# Altium footprint library TO-5-ZTP_1.PcbLib: 1 footprints
Each footprint in its own frame and in the unit in brackets; x right, y up, seen from the top. Pads: shape width x height; smd on the part's side, far side on the other; paste and mask are expansions set on the pad; w line width, h text height; cw(c..) or ccw(c..) is an arc to the next point about the centre after c.
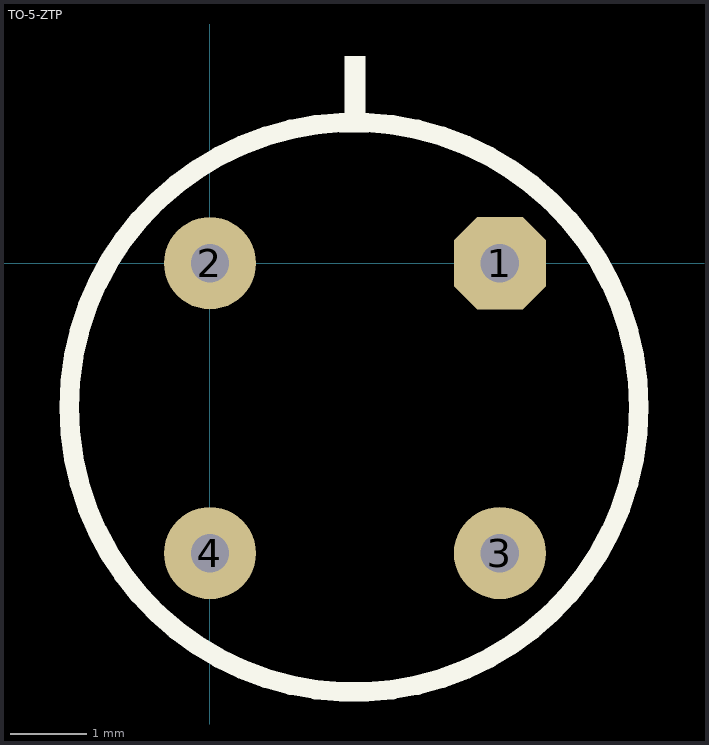
[diagram p0: the footprint, top view; thin cyan lines are the x and y axes]

## TO-5-ZTP [mm]
pads (4):
  oct 1.2x1.2 hole 0.5: 1(3.775,0)
  round 1.2 hole 0.5: 2(0,0) 3(3.775,-3.775) 4(0,-3.775)
Top Overlay:
  circle w0.254: c1.875,-1.875 r3.71
  rectangle: 1.75,1.8 2.025,2.7